# Altium schematic symbol library Schlib2.SchLib: 60 symbols
Pins are listed as number, name and electrical type; pins without a type are passive.

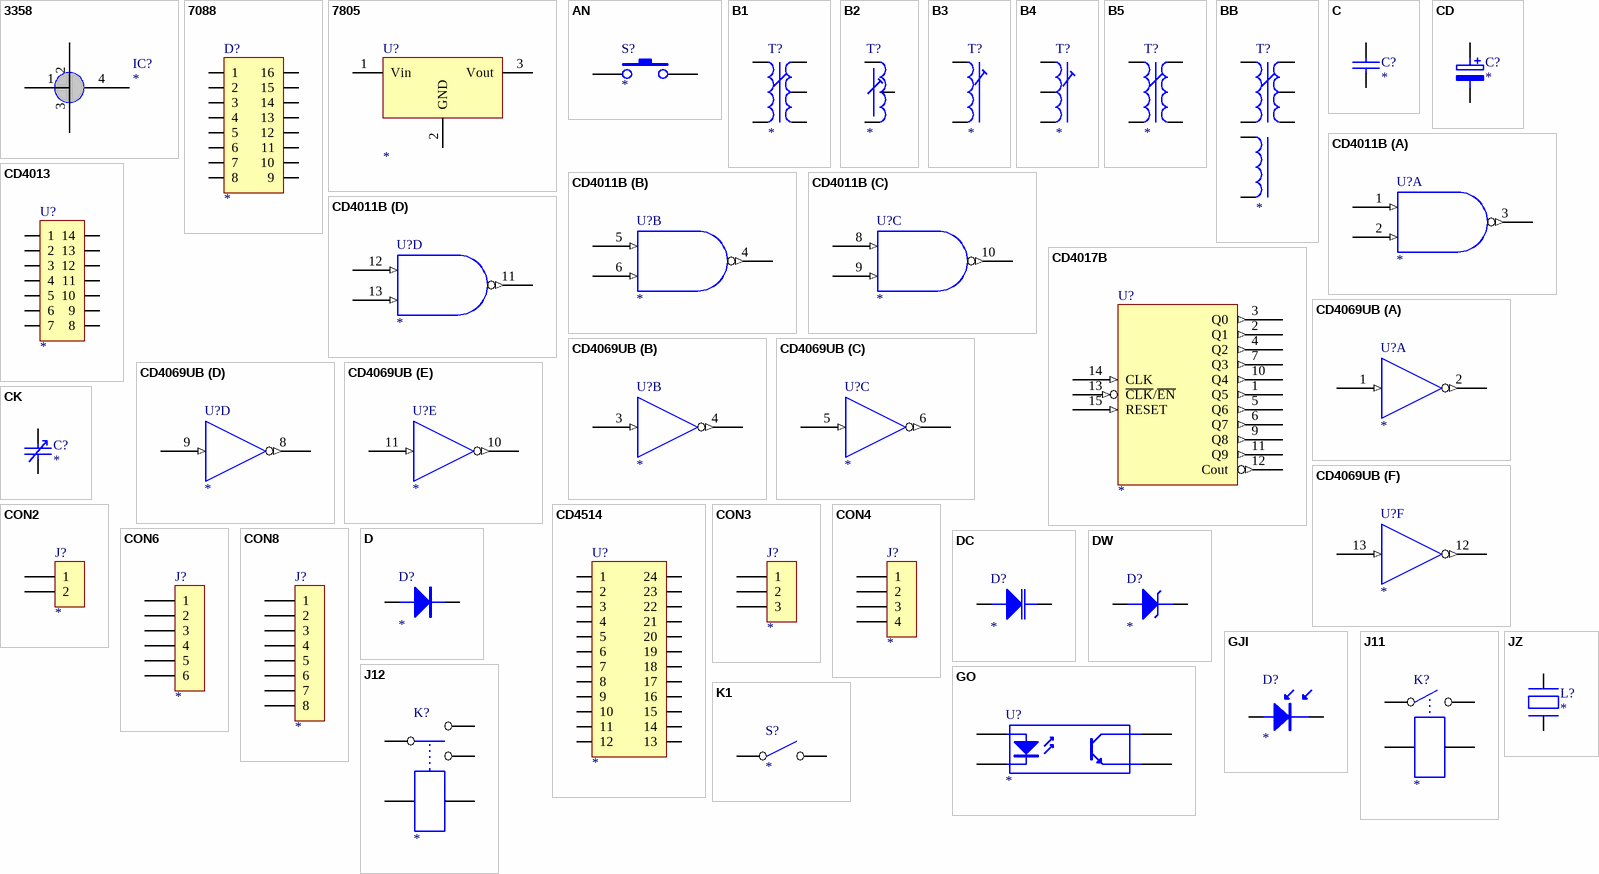
[diagram p0: symbols 3358 to K1]

## 3358
designator IC?
footprint IC1
pins: 1, 2, 3, 4

## 7088
designator D?
footprint SO16
pins: 1, 2, 3, 4, 5, 6, 7, 8, 9, 10, 11, 12, 13, 14, 15, 16

## 7805
designator U?
footprint TO126
footprint TO92
pins: 1 Vin, 2 GND, 3 Vout

## AN
designator S?
footprint S10
pins: 1, 2

## B1
designator T?
pins: 1, 2, 3, 4, 5

## B2
designator T?
pins: 2, 3, 5

## B3
designator T?
pins: 1, 4

## B4
designator T?
pins: 2, 3, 5

## B5
designator T?
footprint T1
footprint T2
pins: 1, 2, 4, 5

## BB
designator T?
footprint BB
pins: 1, 2, 3, 4, 5, 6, 7

## C
designator C?
footprint CC4
footprint CC5
footprint CC6
footprint CC10
pins: 1, 2

## CD
designator C?
footprint CD5
footprint CD12
footprint CD25
footprint CD8
pins: 1, 2

## CD4011B
designator U?
Quad 2-INPUT Nand G
footprint DIP14
footprint SOIC14
part A pins: 1 (in), 2 (in), 3 (out), 7 GND (power) hidden to GND, 14 VCC (power) hidden to VCC
part B pins: 4 (out), 5 (in), 6 (in), 7 GND (power) hidden to GND, 14 VCC (power) hidden to VCC
part C pins: 7 GND (power) hidden to GND, 8 (in), 9 (in), 10 (out), 14 VCC (power) hidden to VCC
part D pins: 7 GND (power) hidden to GND, 11 (out), 12 (in), 13 (in), 14 VCC (power) hidden to VCC
2 alternate drawings of the same symbol

## CD4013
designator U?
footprint DIP14
footprint SO14
pins: 1, 2, 3, 4, 5, 6, 7, 8, 9, 10, 11, 12, 13, 14
1 alternate drawing of the same symbol

## CD4017B
designator U?
DECADE COUNTER/DIVIDER
footprint DIP16
footprint SOIC16
pins: 1 Q5 (out), 2 Q1 (out), 3 Q0 (out), 4 Q2 (out), 5 Q6 (out), 6 Q7 (out), 7 Q3 (out), 8 GND (power) hidden to GND, 9 Q8 (out), 10 Q4 (out), 11 Q9 (out), 12 Cout (out), 13 ~{CLK}/~{EN} (in), 14 CLK (in), 15 RESET (in), 16 VCC (power) hidden to VCC
1 alternate drawing of the same symbol

## CD4069UB
designator U?
HEX INVERTER
footprint DIP14
footprint SOIC14
part A pins: 1 (in), 2 (out), 7 GND (power) hidden to GND, 14 VCC (power) hidden to VCC
part B pins: 3 (in), 4 (out), 7 GND (power) hidden to GND, 14 VCC (power) hidden to VCC
part C pins: 5 (in), 6 (out), 7 GND (power) hidden to GND, 14 VCC (power) hidden to VCC
part D pins: 7 GND (power) hidden to GND, 8 (out), 9 (in), 14 VCC (power) hidden to VCC
part E pins: 7 GND (power) hidden to GND, 10 (out), 11 (in), 14 VCC (power) hidden to VCC
part F pins: 7 GND (power) hidden to GND, 12 (out), 13 (in), 14 VCC (power) hidden to VCC
2 alternate drawings of the same symbol

## CD4514
designator U?
footprint DIP24
footprint SO24W
pins: 1, 2, 3, 4, 5, 6, 7, 8, 9, 10, 11, 12, 13, 14, 15, 16, 17, 18, 19, 20, 21, 22, 23, 24
1 alternate drawing of the same symbol

## CK
designator C?
pins: 1, 2

## CON2
designator J?
Connector
footprint SIP2
footprint SIPK2
footprint PO2
pins: 1, 2

## CON3
designator J?
Connector
footprint SIP3
footprint SIPK3
footprint PO3
pins: 1, 2, 3

## CON4
designator J?
Connector
footprint SIP4
footprint SIPK4
footprint PO4
pins: 1, 2, 3, 4

## CON6
designator J?
Connector
footprint SIP6
pins: 1, 2, 3, 4, 5, 6

## CON8
designator J?
Connector
footprint PO8
pins: 1, 2, 3, 4, 5, 6, 7, 8

## D
designator D?
footprint DW10
footprint DW5
pins: 1, 2

## DC
designator D?
footprint DW10
footprint DW5
pins: 1, 2

## DW
designator D?
footprint DW10
footprint DW5
pins: 1, 2

## GJI
designator D?
footprint GJ1
pins: 1, 2

## GO
designator U?
footprint DIP4
pins: 1, 2, 3, 4

## J11
designator K?
pins: 1, 2, 3, 4

## J12
designator K?
pins: 1, 2, 3, 4, 5

## JZ
designator L?
pins: 1, 2

## K1
designator S?
footprint S10
pins: 1, 2

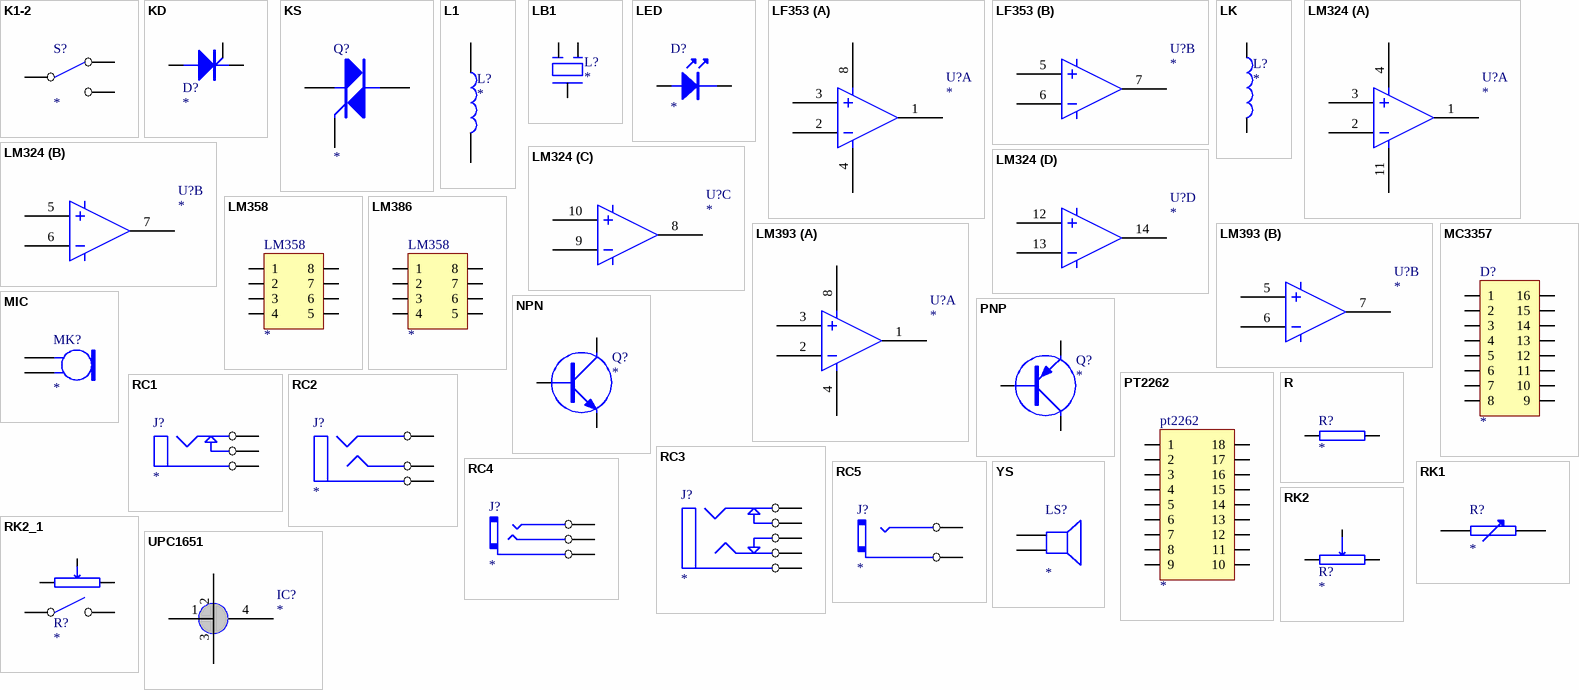
[diagram p1: symbols K1-2 to YS]

## K1-2
designator S?
pins: 1, 2, 3

## KD
designator D?
footprint TO92
footprint TO92B
footprint TO126
pins: 1, 2, 3

## KS
designator Q?
footprint TO92
footprint TO92B
footprint TO126
pins: 1 T, 2 T, 3 G

## L1
designator L?
footprint L10
footprint L5
pins: 1, 2

## LB1
designator L?
footprint LB1
footprint LB2
pins: 1, 2, 3

## LED
designator D?
footprint LED
footprint LED1
pins: 1, 2

## LF353
designator U?
footprint DIP-8
part A pins: 1, 2, 3, 4, 8
part B pins: 5, 6, 7

## LK
designator L?
footprint L5
footprint L10
pins: 1, 2

## LM324
designator U?
footprint DIP-14
part A pins: 1, 2, 3, 4, 11
part B pins: 5, 6, 7
part C pins: 8, 9, 10
part D pins: 12, 13, 14

## LM358
designator LM358
footprint DIP8
footprint SO8
pins: 1, 2, 3, 4, 5, 6, 7, 8

## LM386
designator LM358
footprint DIP8
pins: 1, 2, 3, 4, 5, 6, 7, 8

## LM393
designator U?
footprint DIP-8
part A pins: 1, 2, 3, 4, 8
part B pins: 5, 6, 7

## MC3357
designator D?
footprint DIP16
footprint SO16
pins: 1, 2, 3, 4, 5, 6, 7, 8, 9, 10, 11, 12, 13, 14, 15, 16

## MIC
designator MK?
Microphone
pins: 1, 2

## NPN
designator Q?
footprint TO92
footprint TO92B
footprint TO126
footprint TO126B
pins: 1, 2, 3

## PNP
designator Q?
footprint TO92
footprint TO92B
footprint TO126
footprint TO126B
pins: 1, 2, 3

## PT2262
designator pt2262
footprint DIP18
pins: 1, 2, 3, 4, 5, 6, 7, 8, 9, 10, 11, 12, 13, 14, 15, 16, 17, 18

## R
designator R?
footprint RW10
footprint RW5
footprint RW20
pins: 1, 2

## RC1
designator J?
pins: 1 A, 2 B, 3 C

## RC2
designator J?
pins: 1 A, 2 B, 3 C

## RC3
designator J?
footprint RC3
pins: 1, 2, 3, 4, 5

## RC4
designator J?
pins: 1 A, 2 B, 3 C

## RC5
designator J?
pins: 1 A, 2 B

## RK1
designator R?
pins: 1, 2

## RK2
designator R?
footprint RK2
pins: 1, 2, 3

## RK2_1
designator R?
footprint RK2-1
pins: 1, 2, 3, 4, 5

## UPC1651
designator IC?
footprint IC1
pins: 1, 2, 3, 4

## YS
designator LS?
pins: 1, 2